# Altium schematic symbol library LM74610-Q1.SCHLIB: 1 symbol
Pins are listed as number, name and electrical type; pins without a type are passive.

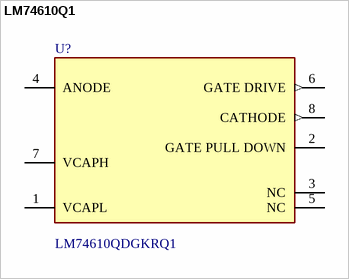
[diagram p0: symbol LM74610Q1]

## LM74610Q1
designator U?, comment LM74610QDGKRQ1
Smart Diode Controller, DGK0008A; Manufacturer: Texas Instruments; SymbolCreator: Altium; SizeX_mm: 5.05; SizeY_mm: 3.1; SizeZ_mm: 1.1; CompType: IC; U/M: EA; SymbolVersion: 2015-03-26; PartNumber: LM74610QDGKRQ1; PackageReference: DGK0008A; PackageDescription: VSSOP-8; MountType: SMT; ComponentLink1Description: Datasheet Link; ComponentLink1URL: https://sps06.itg.ti.com/sites/KMS/crossdivteams/altium/docs/ComponentDatasheets/LM74610_dz_rev1 1.pdf; Publisher: Texas Instruments; LatestRevisionDate: 2016-05-02; Alternate Manufacturer: Texas Instruments
footprint DGK0008A_N
footprint DGK0008A_M
footprint DGK0008A_L
pins: 1 VCAPL, 2 GATE PULL DOWN, 3 NC, 4 ANODE (power), 5 NC, 6 GATE DRIVE (out), 7 VCAPH, 8 CATHODE (out)
1 alternate drawing of the same symbol